# EAGLE library part DIP-BLACK-FEMALE-HEADER-VERT(2X20P) (library OPL-Connector)
320030015
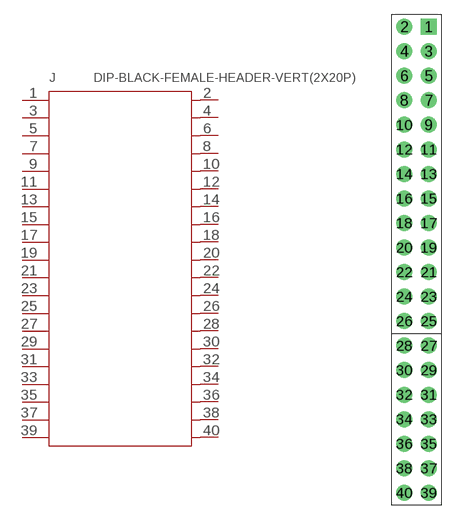
[diagram p62: symbol with the pads of H2X20-2.54; footprint H2X20-2.54]

Designator prefix J

## DIP-BLACK-FEMALE-HEADER-VERT(2X20P) (MPN: F185-1240A0BSYA1)  [H2X20-2.54]
1  3.3V
2  5V
3  GPIO02
4  5V
5  GPIO03
6  GND
7  GPIO04
8  GPIO14
9  GND
10  GPIO15
11  GPIO17
12  GPIO18
13  GPIO27
14  GND
15  GPIO22
16  GPIO23
17  3.3V
18  GPIO24
19  GPIO10
20  GND
21  GPIO09
22  GPIO25
23  GPIO11
24  GPIO08
25  GND
26  GPIO07
27  ID_SD
28  ID_SC
29  GPIO05
30  GND
31  GPIO06
32  GPIO12
33  GPIO13
34  GND
35  GPIO19
36  GPIO16
37  GPIO26
38  GPIO20
39  GND
40  GPIO21

## Footprint H2X20-2.54 (pad centres in mm)
drill 0.889 pad 1.651 square: 1 1.27,24.13
drill 0.889 pad 1.651: 2 -1.27,24.13; 3 1.27,21.59; 4 -1.27,21.59; 5 1.27,19.05; 6 -1.27,19.05; 7 1.27,16.51; 8 -1.27,16.51; 9 1.27,13.97; 10 -1.27,13.97; 11 1.27,11.43; 12 -1.27,11.43; 13 1.27,8.89; 14 -1.27,8.89; 15 1.27,6.35; 16 -1.27,6.35; 17 1.27,3.81; 18 -1.27,3.81; 19 1.27,1.27; 20 -1.27,1.27; 21 1.27,-1.27; 22 -1.27,-1.27; 23 1.27,-3.81; 24 -1.27,-3.81; 25 1.27,-6.35; 26 -1.27,-6.35; 27 1.27,-8.89; 28 -1.27,-8.89; 29 1.27,-11.43; 30 -1.27,-11.43; 31 1.27,-13.97; 32 -1.27,-13.97; 33 1.27,-16.51; 34 -1.27,-16.51; 35 1.27,-19.05; 36 -1.27,-19.05; 37 1.27,-21.59; 38 -1.27,-21.59; 39 1.27,-24.13; 40 -1.27,-24.13